# EAGLE library part IS31AP4991 (library custom)
Audio Amplifier Mono 1.2W 8Ohm 2.7-5.5V
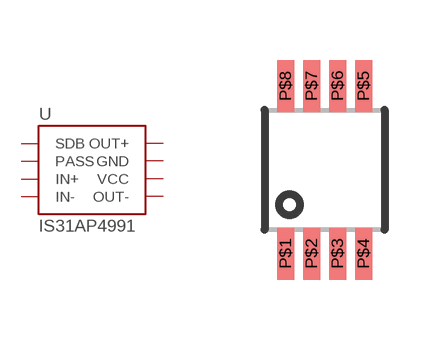
[diagram p90: symbol with the pads of 8-MSOP; footprint 8-MSOP]

Designator prefix U

## IS31AP4991  [8-MSOP]
P$1  SDB
P$2  PASS
P$3  IN+
P$4  IN-
P$5  OUT-
P$6  VCC
P$7  GND
P$8  OUT+

## Footprint 8-MSOP (pad centres in mm)
smd 0.425 x 1.3: P$1 -0.975,-2.1; P$2 -0.325,-2.1; P$3 0.325,-2.1; P$4 0.975,-2.1; P$5 0.975,2.1; P$6 0.325,2.1; P$7 -0.325,2.1; P$8 -0.975,2.1